# Altium footprint library black_V5.PcbLib: 23 footprints (part 1 of 2)
Each footprint in its own frame and in the unit in brackets; x right, y up, seen from the top. Pads: shape width x height; smd on the part's side, far side on the other; paste and mask are expansions set on the pad; w line width, h text height; cw(c..) or ccw(c..) is an arc to the next point about the centre after c.
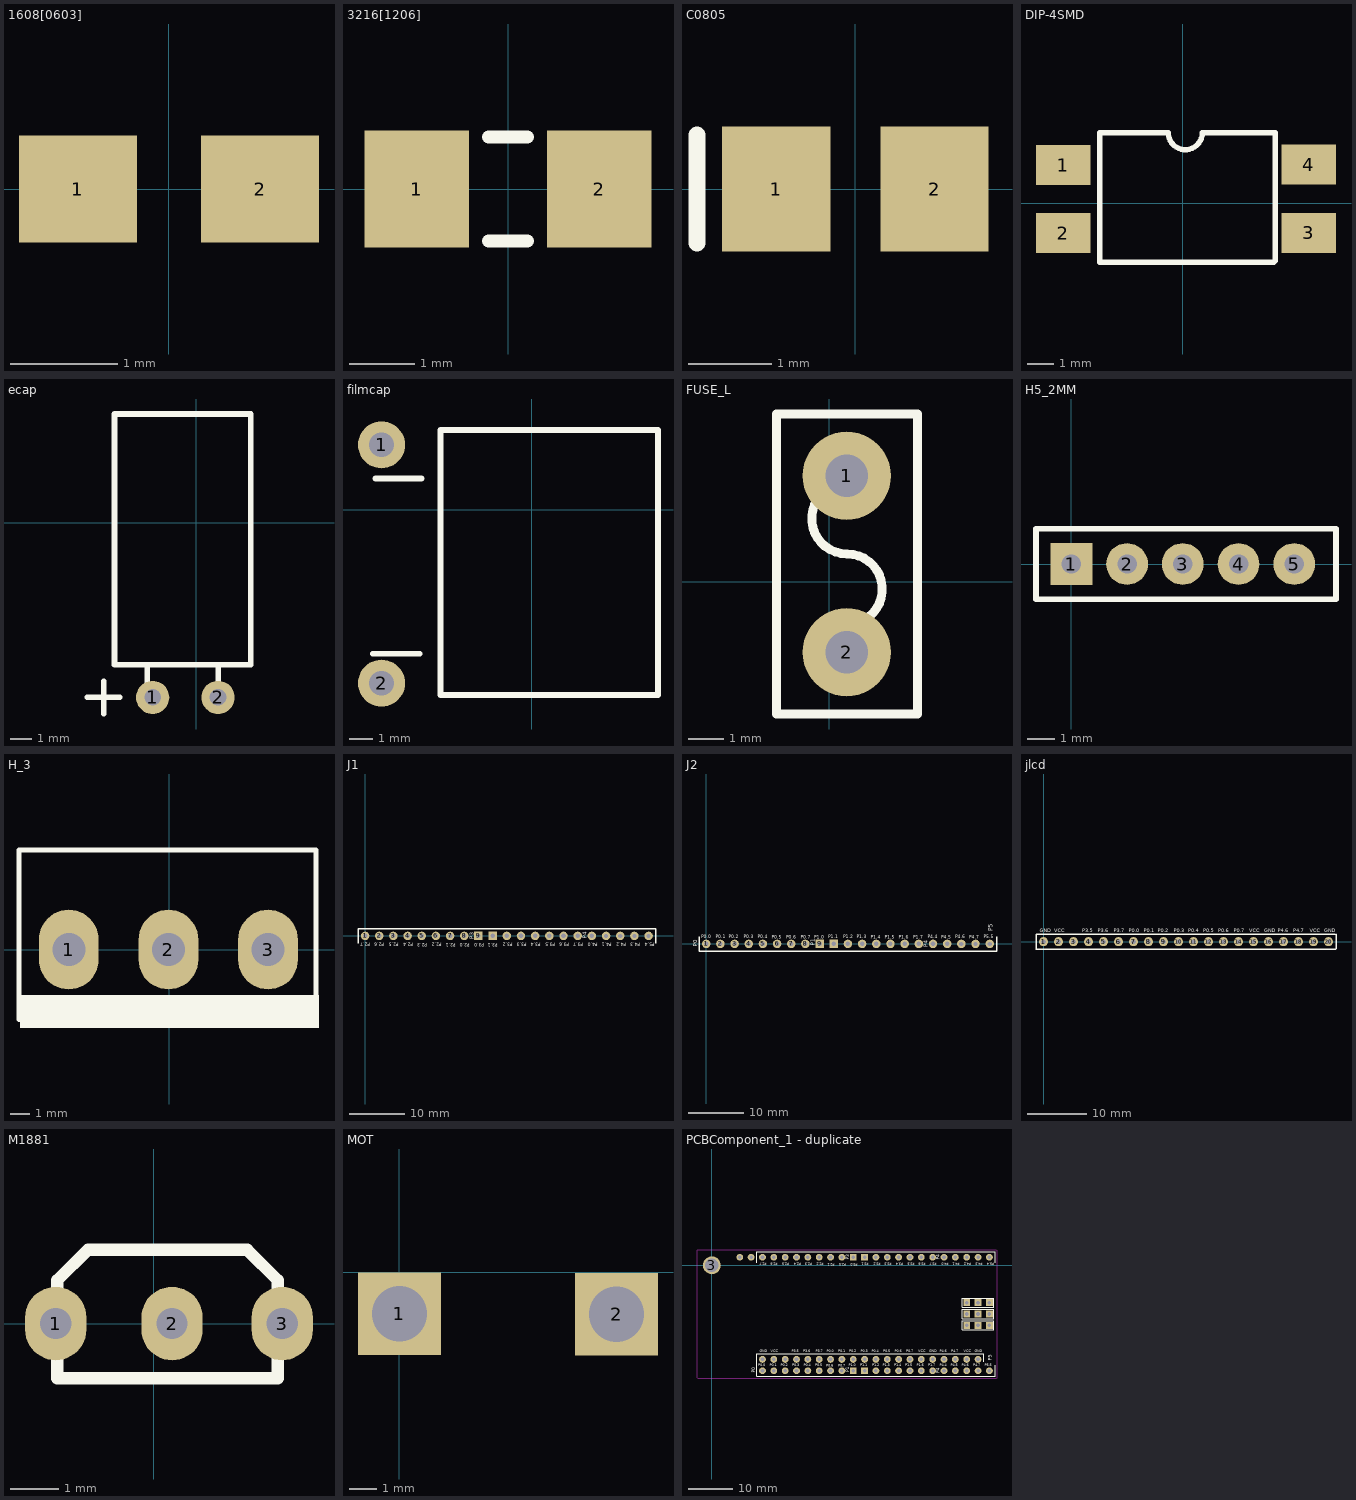
[diagram p0: the footprints below, top view; thin cyan lines are the x and y axes]

## 1608[0603] [mm] "Chip Capacitor; Body 1.6 x 0.8 mm (LxW typ)"
height 1.35
pads (2):
  rect 1.1x1 smd: 1(-0.85,0) 2(0.85,0)

## 3216[1206] [mm] "Chip Resistor; Body 3.2 x 1.6 mm (LxW typ)"
height 2.54
pads (2):
  rect 1.6x1.8 smd: 1(-1.4,0) 2(1.4,0)
Top Overlay:
  lines w0.2: -0.3,-0.8 0.3,-0.8 ; -0.3,0.8 0.3,0.8

## C0805 [mm] "Chip Capacitor; Body 2.0 x 1.2 mm (LxW typ)"
height 1.1
pads (2):
  rect 1.3x1.5 smd: 1(-0.95,0) 2(0.95,0)
Top Overlay:
  lines w0.2: -1.9,-0.65 -1.9,0.65

## DIP-4SMD [mil]
pads (4):
  rect 80x59.06 smd: 1(-176.07,56.13) 2(-176.07,-43.87) 3(184.95,-43.47) 4(184.95,56.92)
Top Overlay:
  lines w7.87: 133.77,-86.78 -122.13,-86.78 -122.13,103.77 -21.54,103.77 ccw(c3.46,103.77) 28.46,103.77 135.74,103.77 135.74,-84.81

## ecap [mil]
pads (2):
  round 60 hole 30: 1(-78.74,-314.96) 2(39.37,-314.96)
Top Overlay:
  lines w10: -196.85,-314.96 -137.8,-314.96 ; -167.32,-344.49 -167.32,-285.43 ; -88.58,-295.28 -88.58,-255.91 ; 39.37,-295.28 39.37,-255.91 ; -147.64,-255.91 -147.64,196.85 98.43,196.85 98.43,-49.21 98.42,-255.91 49.21,-255.91 -147.64,-255.91

## filmcap [mil]
height 118.11
pads (2):
  round 80 hole 42: 1(-255,110) 2(-255,-295)
Top Overlay:
  lines w10: -270,-245 -190,-245 ; -265,53 -187,53 ; -155,-315 -155,135 215,135 215,-315 -20.75,-315 -155,-315

## FUSE_L [mm]
pads (2):
  round 2.5 hole 1.2: 1(0.5,3) 2(0.5,-2)
Top Overlay:
  lines w0.254: 0.508,-1.213 ccw(c0.508,-0.213) 0.508,0.787 cw(c0.508,1.787) 0.508,2.787 ; -1.492,-3.75 -1.492,4.75 2.508,4.75 2.508,-3.75 -1.492,-3.75

## H5_2MM [mm] "Connector; Header; 5 Position"
height 2.54
pads (5):
  rect 1.5x1.5 hole 0.7: 1(0,0)
  round 1.5 hole 0.7: 2(2,0) 3(4,0) 4(6,0) 5(8,0)
Top Overlay:
  lines w0.2: -1.27,-1.27 -1.27,1.27 9.5,1.27 9.5,-1.27 -1.27,-1.27

## H_3 [mm]
pads (3):
  oval 3x4 hole 1.65: 1(-5.047,0) 2(-0.047,0) 3(4.953,0)
Top Overlay:
  rectangle: -7.493,-3.937 7.507,-2.286
  lines w0.254: -7.547,-3.5 -7.547,5 7.366,5 7.366,-3.5 -7.547,-3.5

## J1 [mil]
pads (21):
  round 60 hole 32: 1(0,0) 2(100,0) 3(200,0) 4(300,0) 5(400,0) 6(500,0) 7(600,0) 8(700,0) 11(1000,0) 12(1100,0) 13(1200,0) 14(1300,0) 15(1400,0) 16(1500,0) 17(1600,0)
  rect 60x60 hole 32: 9(800,0) 10(900,0)
  round 60 hole 30: 18(1700,0) 19(1800,0) 20(1900,0) 21(2000,0)
Top Overlay:
  lines w10: -50,-50 -50,50 2050,50 2050,-50
  text "P5.4" at 2043,-49 h23.62
  text "P4.3" at 1942,-49 h23.62
  text "P4.1" at 1740,-48 h23.62
  text "P4.0" at 1642,-49 h23.62
  text "P3.7" at 1538,-49 h23.62
  text "P3.6" at 1441,-49 h23.62
  text "P3.5" at 1340,-49 h23.62
  text "P3.4" at 1240,-49 h23.62
  text "P3.3" at 1140,-49 h23.62
  text "P3.1" at 935,-50 h23.62
  text "P2.7" at 38,-49 h23.62
  text "P2.6" at 135,-49 h23.62
  text "P2.5" at 237,-49 h23.62
  text "P2.1" at 638,-51 h23.62
  text "P2.0" at 738,-51 h23.62
  text "P3" at 765,-23 h27.56
  text "P4" at 1564,-21 h27.56
  text "P3.2" at 1041,-49 h23.62
  text "P2.3" at 439,-50 h23.62
  text "P2.2" at 541,-49 h23.62
  text "P2.4" at 340,-49 h23.62
  text "P3.0" at 841,-52 h23.62
  text "P4.2" at 1841,-49 h23.62
Bottom Overlay:
  lines w10: -50,50 2050,50 2050,-51 ; -5,-93 -5,7
  text "P4" at 1565,21 h27.56
  text "P3" at 764,21 h27.56
  text "P2.7" at -40,-51 h23.62
  text "P3.0" at 764,-51 h23.62
  text "P4.1" at 1663,-51 h23.62
  text "P2.6" at 65,-51 h23.62
  text "P3.7" at 1468,-51 h23.62
  text "P2.4" at 262,-51 h23.62
  text "P2.3" at 365,-51 h23.62
  text "P2.2" at 464,-51 h23.62
  text "P2.1" at 567,-51 h23.62
  text "P2.0" at 663,-51 h23.62
  text "P4.0" at 1563,-51 h23.62
  text "P3.6" at 1364,-51 h23.62
  text "P3.5" at 1264,-51 h23.62
  text "P3.4" at 1163,-51 h23.62
  text "P3.3" at 1063,-51 h23.62
  text "P3.2" at 963,-51 h23.62
  text "P4.2" at 1759,-52 h23.62
  text "P4.3" at 1860,-51 h23.62
  text "P5.4" at 1961,-51 h23.62
  text "P3.1" at 864,-51 h23.62
  text "P2.5" at 159,-51 h23.62

## J2 [mil]
pads (21):
  round 60 hole 32: 1(0,0) 2(100,0) 3(200,0) 4(300,0) 5(400,0) 6(500,0) 7(600,0) 8(700,0) 11(1000,0) 12(1100,0) 13(1200,0) 14(1300,0) 15(1400,0) 16(1500,0) 17(1600,0) 18(1700,0)
  rect 60x60 hole 32: 9(800,0) 10(900,0)
  round 60 hole 30: 19(1800,0) 20(1900,0) 21(2000,0)
Top Overlay:
  lines w10: -50,49 -50,-50 2050,-50 2050,50
  text "P1.6" at 1358,38 h23.62
  text "P0.0" at -36,40 h23.62
  text "P0.1" at 66,39 h23.62
  text "P0.2" at 160,40 h23.62
  text "P0.3" at 264,39 h23.62
  text "P0.4" at 364,39 h23.62
  text "P0.5" at 463,38 h23.62
  text "P0.6" at 564,37 h23.62
  text "P0.7" at 667,37 h23.62
  text "P1.1" at 860,39 h23.62
  text "P1.2" at 967,39 h23.62
  text "P1.3" at 1061,39 h23.62
  text "P1.4" at 1161,38 h23.62
  text "P1.5" at 1259,38 h23.62
  text "P1.7" at 1461,38 h23.62
  text "P4.7" at 1857,38 h23.62
  text "P5.5" at 1959,39 h23.62
  text "P4" at 1563,-23 h27.56
  text "P1" at 764,-13 h27.56
  text "P0" at -65,-19 h27.56
  text "P4.6" at 1757,39 h23.62
  text "P4.5" at 1658,38 h23.62
  text "P1.0" at 761,38 h23.62
  text "P4.4" at 1563,39 h23.62
  text "P5" at 2020,88 h31.5
Bottom Overlay:
  lines w10: -50,50 -50,-50 2050,-50 2050,50
  text "P0.2" at 241,39 h23.62
  text "P0.1" at 138,40 h23.62
  text "P0.3" at 340,40 h23.62
  text "P0.4" at 439,40 h23.62
  text "P0.5" at 540,38 h23.62
  text "P0.6" at 640,39 h23.62
  text "P0.7" at 741,38 h23.62
  text "P1.1" at 940,40 h23.62
  text "P1.2" at 1038,39 h23.62
  text "P1.3" at 1138,39 h23.62
  text "P1.4" at 1240,38 h23.62
  text "P1.5" at 1339,39 h23.62
  text "P1.7" at 1544,39 h23.62
  text "P4.4" at 1645,39 h23.62
  text "P4.6" at 1835,39 h23.62
  text "P4.7" at 1938,41 h23.62
  text "P5.5" at 2040,40 h23.62
  text "P1" at 764,15 h27.56
  text "P4" at 1565,20 h27.56
  text "P0.0" at 47,40 h23.62
  text "P1.6" at 1442,39 h23.62
  text "P0" at -66,23 h27.56
  text "P4.5" at 1741,37 h23.62
  text "P1.0" at 840,38 h23.62
  text "P5" at 2024,146 h27.56

## jlcd [mil]
pads (20):
  round 60 hole 32: 1(0,0) 2(100,0) 3(200,0) 4(300,0) 5(400,0) 6(500,0) 7(600,0) 8(700,0) 9(800,0) 10(900,0) 11(1000,0) 12(1100,0) 13(1200,0) 14(1300,0) 15(1400,0) 16(1500,0) 17(1600,0) 18(1700,0) 19(1800,0) 20(1900,0)
Top Overlay:
  lines w10: 1944,50 -50,50 -50,-49 -48,-51 1947,-51 1950,-48 1950,50 1950,-20
  text "P3.6" at 360,63 h23.62
  text "GND" at 1871,63 h23.62
  text "VCC" at 1774,63 h23.62
  text "P4.7" at 1664,63 h23.62
  text "P3.5" at 259,63 h23.62
  text "P3.7" at 468,63 h23.62
  text "P4.6" at 1562,63 h23.62
  text "GND" at 1472,63 h23.62
  text "GND" at -26,63 h23.62
  text "VCC" at 73,63 h23.62
  text "VCC" at 1372,63 h23.62
  text "P0.0" at 567,63 h23.62
  text "P0.2" at 763,63 h23.62
  text "P0.3" at 867,63 h23.62
  text "P0.4" at 964,63 h23.62
  text "P0.5" at 1065,63 h23.62
  text "P0.6" at 1165,63 h23.62
  text "P0.7" at 1267,63 h23.62
  text "P0.1" at 668,63 h23.62
Bottom Overlay:
  lines w10: 1949,50 1950,49

## M1881 [mil]
pads (3):
  oval 50x60 hole 25.59: 1(-80,0) 2(15,0) 3(105,0)
Top Overlay:
  lines w10: -78.69,-44.69 101.31,-44.69 101.31,35.31 76.31,60.31 -53.69,60.31 -78.69,35.31 -78.69,-44.69

## MOT [mm]
height 19.1
pads (2):
  rect 3x3 hole 2: 1(0,-1.5) 2(7.874,-1.524)

## PCBComponent_1 [mil]

## PCBComponent_1 - duplicate [mil]
pads (74):
  round 60 hole 30: 0(346,71) 1(246,71) 17(2146,71) 17(2246,-929) 18(2246,71) 18(2346,-929) 19(2346,71) 19(2446,-929) 20(2446,71)
  round 60 hole 32: 1(446,-929) 1(446,-829) 1(446,71) 2(546,-929) 2(546,-829) 2(546,71) 3(646,-929) 3(646,-829) 3(646,71) 4(746,-929) 4(746,-829) 4(746,71) 5(846,-929) 5(846,-829) 5(846,71) 6(946,-929) 6(946,-829) 6(946,71) 7(1046,-929) 7(1046,-829) 7(1046,71) 8(1146,-929) 8(1146,-829) 8(1146,71) 9(1246,-829) 10(1346,-829) 10(1446,-929) 10(1446,71) 11(1446,-829) 11(1546,-929) 11(1546,71) 12(1546,-829) 12(1646,-929) 12(1646,71) 13(1646,-829) 13(1746,-929) 13(1746,71) 14(1746,-829) 14(1846,-929) 14(1846,71) 15(1846,-829) 15(1946,-929) 15(1946,71) 16(1946,-829) 16(2046,-929) 16(2046,71) 17(2046,-829) 18(2146,-829) 19(2246,-829) 20(2346,-829) 21(2146,-929)
  rect 60x60 hole 32: 1(2246,-529) 1(2246,-429) 1(2246,-329) 2(2346,-529) 2(2346,-429) 2(2346,-329) 3(2446,-529) 3(2446,-429) 3(2446,-329) 9(1346,-929) 9(1346,71) 20(1246,-929) 21(1246,71)
  round 157.48 hole 120.08: 3(0,0)
Top Overlay:
  lines w10: 396,21 396,121 2496,121 2496,21 ; 2396,-849 2396,-779 396,-779 396,-880 396,-979 2496,-979 2496,-879 ; 2206,-569 2486,-569 2486,-529 2486,-489 2206,-489 2206,-569 ; 2206,-469 2486,-469 2486,-429 2486,-389 2206,-389 2206,-469 ; 2206,-369 2486,-369 2486,-329 2486,-289 2206,-289 2206,-369
  text "P5" at 2466,-841 h31.5
  text "P4.2" at 2287,22 h23.62
  text "P3.0" at 1287,19 h23.62
  text "P2.4" at 786,22 h23.62
  text "P4.4" at 2009,-890 h23.62
  text "P1.0" at 1207,-891 h23.62
  text "P4.5" at 2104,-891 h23.62
  text "P3.6" at 806,-766 h23.62
  text "GND" at 2317,-766 h23.62
  text "VCC" at 2220,-766 h23.62
  text "P4.6" at 2203,-890 h23.62
  text "P2.2" at 987,22 h23.62
  text "P2.3" at 885,21 h23.62
  text "P3.2" at 1487,22 h23.62
  text "P4.7" at 2110,-766 h23.62
  text "P0" at 381,-948 h27.56
  text "P1" at 1210,-942 h27.56
  text "P4" at 2009,-952 h27.56
  text "P4" at 2010,50 h27.56
  text "P3" at 1211,48 h27.56
  text "P2.0" at 1184,20 h23.62
  text "P2.1" at 1084,20 h23.62
  text "P2.5" at 683,22 h23.62
  text "P2.6" at 581,22 h23.62
  text "P2.7" at 484,22 h23.62
  text "P3.1" at 1381,21 h23.62
  text "P3.3" at 1586,22 h23.62
  text "P3.4" at 1686,22 h23.62
  text "P3.5" at 1786,22 h23.62
  text "P3.6" at 1887,22 h23.62
  text "P3.7" at 1984,22 h23.62
  text "P4.0" at 2088,22 h23.62
  text "P4.1" at 2186,23 h23.62
  text "P4.3" at 2388,22 h23.62
  text "P5.4" at 2489,22 h23.62
  text "P5.5" at 2405,-890 h23.62
  text "P4.7" at 2303,-891 h23.62
  text "P1.7" at 1907,-891 h23.62
  text "P1.5" at 1705,-891 h23.62
  text "P1.4" at 1607,-891 h23.62
  text "P1.3" at 1507,-890 h23.62
  text "P1.2" at 1413,-890 h23.62
  text "P1.1" at 1306,-890 h23.62
  text "P0.7" at 1113,-892 h23.62
  text "P0.6" at 1010,-892 h23.62
  text "P0.5" at 909,-891 h23.62
  text "P0.4" at 810,-890 h23.62
  text "P0.3" at 710,-890 h23.62
  text "P0.2" at 606,-889 h23.62
  text "P0.1" at 512,-890 h23.62
  text "P0.0" at 410,-889 h23.62
  text "P1.6" at 1804,-891 h23.62
  text "P3.5" at 705,-766 h23.62
  text "P3.7" at 914,-766 h23.62
  text "P4.6" at 2008,-766 h23.62
  text "GND" at 1918,-766 h23.62
  text "GND" at 420,-766 h23.62
  text "VCC" at 519,-766 h23.62
  text "VCC" at 1818,-766 h23.62
  text "P0.0" at 1013,-766 h23.62
  text "P0.2" at 1209,-766 h23.62
  text "P0.3" at 1313,-766 h23.62
  text "P0.4" at 1410,-766 h23.62
  text "P0.5" at 1511,-766 h23.62
  text "P0.6" at 1611,-766 h23.62
  text "P0.7" at 1713,-766 h23.62
  text "P0.1" at 1114,-766 h23.62
Bottom Overlay:
  lines w10: 396,121 2496,121 2496,20 ; 441,-22 441,78 ; 2396,-850 2396,-780 2395,-779 396,-779 396,-879 396,-979 2496,-979 2496,-879 ; 2206,-569 2206,-489 2486,-489 2486,-569 2206,-569 ; 2206,-469 2206,-389 2486,-389 2486,-469 2206,-469 ; 2206,-369 2206,-289 2486,-289 2486,-369 2206,-369
  text "P2.7" at 406,20 h23.62
  text "P5" at 2470,-783 h27.56
  text "P1.0" at 1286,-891 h23.62
  text "P3.0" at 1210,20 h23.62
  text "P4.5" at 2187,-892 h23.62
  text "P0" at 380,-906 h27.56
  text "P1.6" at 1888,-890 h23.62
  text "P4.1" at 2109,20 h23.62
  text "P2.6" at 511,20 h23.62
  text "GND" at 2176,-267 h31.5
  text "P0.0" at 493,-889 h23.62
  text "P3.7" at 1914,20 h23.62
  text "P3" at 1210,92 h27.56
  text "P4" at 2011,92 h27.56
  text "P4" at 2011,-909 h27.56
  text "P1" at 1210,-914 h27.56
  text "P5.5" at 2486,-889 h23.62
  text "P4.7" at 2384,-888 h23.62
  text "P4.6" at 2281,-890 h23.62
  text "P4.4" at 2091,-890 h23.62
  text "P1.7" at 1990,-890 h23.62
  text "P1.5" at 1785,-890 h23.62
  text "P1.4" at 1686,-891 h23.62
  text "P1.3" at 1584,-890 h23.62
  text "P1.2" at 1484,-890 h23.62
  text "P1.1" at 1386,-889 h23.62
  text "P0.7" at 1187,-891 h23.62
  text "P0.6" at 1086,-890 h23.62
  text "P0.5" at 986,-891 h23.62
  text "P0.4" at 885,-889 h23.62
  text "P0.3" at 786,-889 h23.62
  text "P0.1" at 584,-889 h23.62
  text "P2.4" at 708,20 h23.62
  text "P2.3" at 811,20 h23.62
  text "P2.2" at 910,20 h23.62
  text "P2.1" at 1013,20 h23.62
  text "P2.0" at 1109,20 h23.62
  text "P4.0" at 2009,20 h23.62
  text "P3.6" at 1810,20 h23.62
  text "P3.5" at 1710,20 h23.62
  text "P3.4" at 1609,20 h23.62
  text "P3.3" at 1509,20 h23.62
  text "P3.2" at 1409,20 h23.62
  text "P4.2" at 2205,19 h23.62
  text "P4.3" at 2306,20 h23.62
  text "P5.4" at 2407,20 h23.62
  text "P0.2" at 687,-890 h23.62
  text "5V" at 2178,-512 h31.5
  text "3.3V" at 2176,-376 h31.5
  text "P3.1" at 1310,20 h23.62
  text "P2.5" at 605,20 h23.62
Keep-Out Layer:
  lines w10: -131,-989 -131,131 -126,136 1044,136 2508,136 2513,131 2513,-989 2508,-994 903,-994 -126,-994